# EAGLE library part MDIN08K (library con-yamaichi)
YAMAICHI CONNECTOR
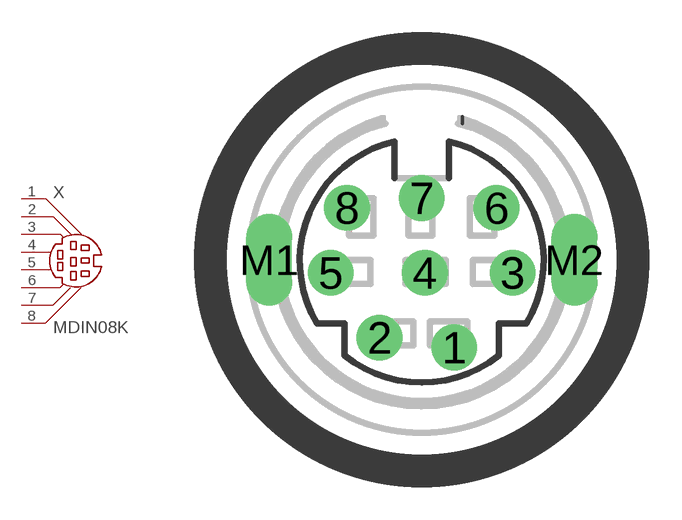
[diagram p24: symbol with the pads of MDIN08K; footprint MDIN08K]

Designator prefix X

## MDIN08K (OC_FARNELL: unknown; OC_NEWARK: unknown)  [MDIN08K]
1  1  pas
2  2  pas
3  3  pas
4  4  pas
5  5  pas
6  6  pas
7  7  pas
8  8  pas

## Footprint MDIN08K (pad centres in mm)
Mini Din YAMAICHI CONNECTOR
drill 0.9: 1 1,-2.7; 2 -1.3,-2.4; 3 2.8,-0.4; 4 0.1,-0.4; 5 -2.8,-0.4; 6 2.3,1.6; 7 0,1.9; 8 -2.3,1.6
drill 0.9 long: M1 -4.7,0; M2 4.7,0